# Altium footprint library Passive_Old.PcbLib: 221 footprints (part 10 of 14)
Each footprint in its own frame and in the unit in brackets; x right, y up, seen from the top. Pads: shape width x height; smd on the part's side, far side on the other; paste and mask are expansions set on the pad; w line width, h text height; cw(c..) or ccw(c..) is an arc to the next point about the centre after c.
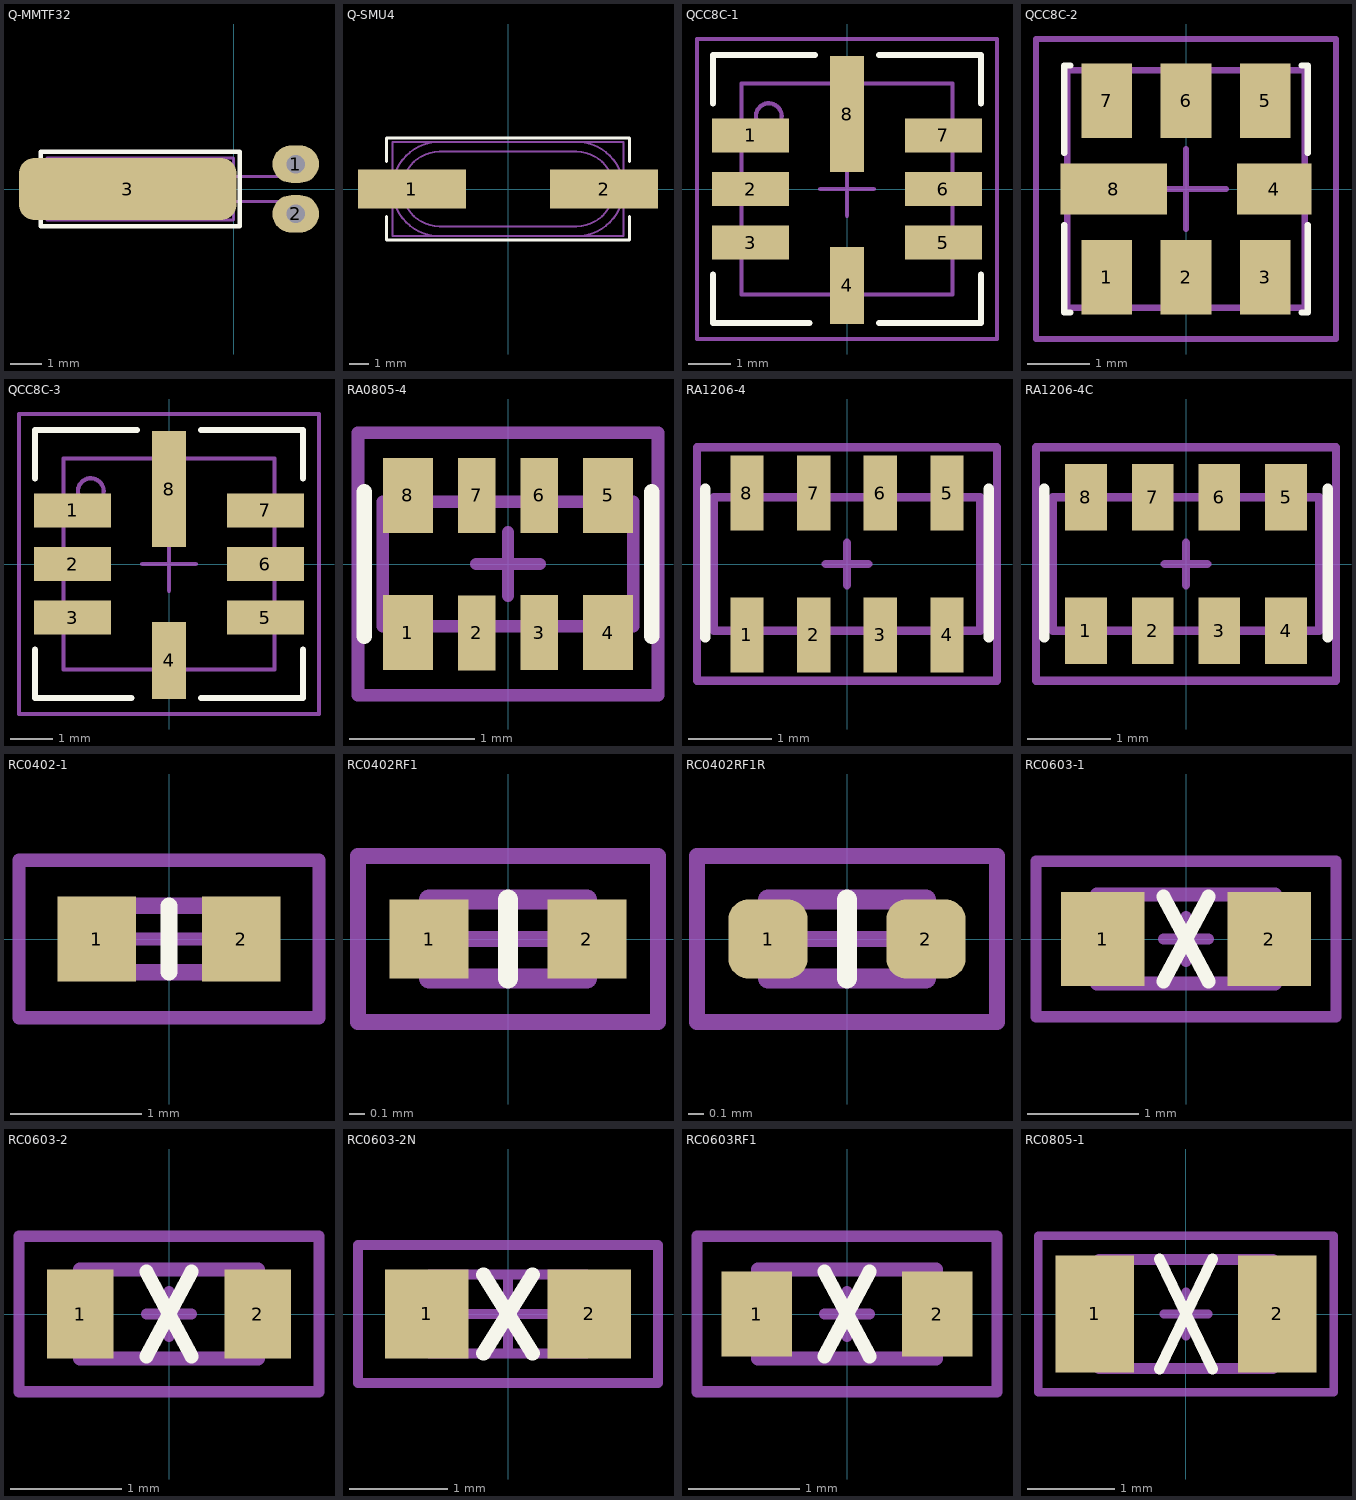
[diagram p9: the footprints below, top view; thin cyan lines are the x and y axes]

## Q-MMTF32 [mm] "Quartz D2x6mm tht"
pads (3):
  oval 1.5x1.2 hole 0.6: 1(2,0.8) 2(2,-0.8)
  rrect50% 7x2 smd paste-200: 3(-3.4,0)
Top Overlay:
  lines w0.15: -6.2,-1.2 -6.2,1.2 0.2,1.2 0.2,-1.2 -6.2,-1.2
Mechanical 13:
  lines w0.102: 0,-0.4 1.6,-0.4 2,-0.8 ; 0,0.4 1.6,0.4 2,0.8 ; -6,-1 -6,1 0,1 0,-1 -6,-1
3D body: height 2.09, standoff 0.1, extent -6,-1 0,0.996
3D body: height 1, standoff -3.2, extent 1.85,0.65 2.15,0.95
3D body: height 1.2, standoff 1, extent 0,0.3 2.15,0.95
3D body: height 1, standoff -3.2, extent 1.85,-0.95 2.15,-0.65
3D body: height 1.2, standoff 1, extent 0,-0.95 2.15,-0.3

## Q-SMU4 [mm] "Quartz crystal 12.5x4.8x4mm"
height 4
pads (2):
  rect 5.5x2 smd: 1(-4.9,0) 2(4.9,0)
Top Overlay:
  lines w0.15: -6.2,-1.4 -6.2,-2.6 6.2,-2.6 6.2,-1.4 ; -6.2,1.4 -6.2,2.6 6.2,2.6 6.2,1.4
Mechanical 13:
  lines w0.1: -3.5,-2.4 cw(c-3.5,0) -3.5,2.4 ; -3.5,-1.9 cw(c-3.5,0) -3.5,1.9 ; 3.5,-2.4 ccw(c3.5,0) 3.5,2.4 ; 3.5,-1.9 ccw(c3.5,0) 3.5,1.9
  lines w0.102: -3.5,-1.9 3.5,-1.9 ; -3.5,1.9 3.5,1.9 ; -5.9,-2.4 5.9,-2.4 5.9,2.4 -5.9,2.4 -5.9,-2.4
3D body: height 1, standoff 0.8, extent -5.912,-2.412 5.912,2.412
3D body: height 4, standoff 0.8, extent -5.4,-1.9 5.4,1.9
3D body: height 0.8, standoff 0, extent -5.9,-2.4 5.9,2.4

## QCC8C-1 [mil] "SAW filter 8 pin R1.27mm"
height 66.93
pads (8):
  rect 72x32 smd: 1(-90,50) 2(-90,0) 3(-90,-50) 5(90,-50) 6(90,0) 7(90,50)
  rect 32x72 smd: 4(0,-90)
  rect 32x108 smd: 8(0,70)
Top Overlay:
  lines w5.91: -125,-80 -125,-125 -35,-125 ; -125,80 -125,125 -30,125 ; 30,-125 125,-125 125,-80 ; 30,125 125,125 125,80
Mechanical 13:
  circle w4: c-73,68 r12
  lines w4: -98.43,-57.87 -98.43,-98.43 -7.87,-98.43 ; -98.43,-42.13 -98.43,-7.87 ; -98.43,7.87 -98.43,43.13 ; -98.43,58.87 -98.43,98.43 -7.87,98.43 ; -98.18,-57.87 ccw(c-98.18,-50) -98.18,-42.13 ; -98.18,-7.87 ccw(c-98.18,0) -98.18,7.87 ; -98.18,43.13 ccw(c-98.18,51) -98.18,58.87 ; -7.87,-98.18 cw(c0,-98.18) 7.87,-98.18 ; -7.87,98.18 ccw(c0,98.18) 7.87,98.18 ; 7.87,-98.43 98.43,-98.43 98.43,-57.87 ; 7.87,98.43 98.43,98.43 98.43,58.87 ; 98.18,-57.87 cw(c98.18,-50) 98.18,-42.13 ; 98.18,-7.87 cw(c98.18,0) 98.18,7.87 ; 98.18,43.13 cw(c98.18,51) 98.18,58.87 ; 98.43,-42.13 98.43,-7.87 ; 98.43,7.87 98.43,43.13
Mechanical 15:
  lines w4: -25,0 25,0 ; 0,-25 0,25 ; -140,-140 140,-140 140,140 -140,140 -140,-105 -140,-140
3D body: height 66.93, standoff 53.15, extent -90.55,-90.55 90.55,90.55
3D body: height 53.15, standoff 0, extent -8.03,-98.43 8.03,-90.24
3D body: height 53.15, standoff 0, extent -98.34,-58.03 -90.15,-41.98
3D body: height 53.15, standoff 0, extent -98.43,-8.03 -90.24,8.03
3D body: height 53.15, standoff 0, extent -98.43,42.97 -90.24,59.03
3D body: height 53.15, standoff 0, extent -8.03,90 8.02,98.18
3D body: height 53.15, standoff 0, extent 90.24,42.97 98.43,59.03
3D body: height 53.15, standoff 0, extent 90.24,-8.03 98.43,8.03
3D body: height 53.15, standoff 0, extent 90.24,-57.87 98.43,-41.82
3D body: height 53.15, standoff 0, extent -98.43,-98.43 98.45,98.43
3D body: height 67.32, standoff 66.93, extent -85.24,55.76 -60.76,80.24

## QCC8C-2 [mm] "SAW filter 8 pin R1.27mm"
height 1.1
pads (8):
  rect 0.81x1.19 smd: 1(-1.27,-1.41) 2(0,-1.41) 3(1.27,-1.41) 5(1.27,1.41) 6(0,1.41) 7(-1.27,1.41)
  rect 1.19x0.81 smd: 4(1.41,0)
  rect 1.7x0.81 smd: 8(-1.155,0)
Top Overlay:
  lines w0.102: -1.95,-0.575 -1.95,-1.975 ; -1.95,0.575 -1.95,1.975 ; -1.85,-1.975 -1.95,-1.975 ; -1.85,1.975 -1.95,1.975 ; 1.85,-1.975 1.95,-1.975 ; 1.85,1.975 1.95,1.975 ; 1.95,-0.575 1.95,-1.975 ; 1.95,0.575 1.95,1.975 ; -1.95,-1.975 -1.95,-1.975 ; -1.95,1.975 -1.95,1.975 ; 1.95,-1.975 1.95,-1.975 ; 1.95,1.975 1.95,1.975
Mechanical 13:
  lines w0.1: -1.9,-0.2 ccw(c-1.9,0) -1.9,0.2 ; -1.475,-1.9 cw(c-1.275,-1.9) -1.075,-1.9 ; -1.475,1.9 ccw(c-1.275,1.9) -1.075,1.9 ; -0.2,-1.9 cw(c0,-1.9) 0.2,-1.9 ; -0.2,1.9 ccw(c0,1.9) 0.2,1.9 ; 1.075,-1.9 cw(c1.275,-1.9) 1.475,-1.9 ; 1.075,1.9 ccw(c1.275,1.9) 1.475,1.9 ; 1.9,-0.2 cw(c1.9,0) 1.9,0.2
  lines w0.102: -1.9,-0.204 -1.9,-1.9 -1.475,-1.9 ; -1.9,0.2 -1.9,1.9 -1.479,1.9 ; -1.075,1.9 -0.204,1.9 ; -1.071,-1.9 -0.2,-1.9 ; -1.05,-1.3 cw(c-1.3,-1.3) -1.05,-1.297 ; 0.2,1.9 1.071,1.9 ; 0.204,-1.9 1.075,-1.9 ; 1.475,1.9 1.9,1.9 1.9,0.204 ; 1.479,-1.9 1.9,-1.9 1.9,-0.2
Mechanical 15:
  lines w0.102: -0.635,0 0.635,0 ; 0,-0.635 0,0.635 ; -2.4,-2.4 -2.4,2.4 2.4,2.4 2.4,-2.4 -2.4,-2.4
3D body: height 1, standoff 0, extent -1.905,-0.209 -1.696,0.203
3D body: height 1, standoff 0, extent -1.479,1.696 -1.067,1.905
3D body: height 1, standoff 0, extent -0.203,1.676 0.209,1.885
3D body: height 1, standoff 0, extent 1.067,1.676 1.479,1.885
3D body: height 1, standoff 0, extent 1.696,-0.204 1.905,0.208
3D body: height 1, standoff 0, extent 1.071,-1.905 1.483,-1.696
3D body: height 1, standoff 0, extent -0.204,-1.905 0.208,-1.696
3D body: height 1.11, standoff 1.1, extent -1.554,-1.554 -1.045,-1.036
3D body: height 1, standoff 0, extent -1.479,-1.905 -1.067,-1.696
3D body: height 1, standoff 0, extent -1.9,-1.9 1.9,1.9
3D body: height 1.1, standoff 1, extent -1.7,-1.7 1.7,1.7

## QCC8C-3 [mil] "SAW filter 8 pin R1.27mm"
height 66.93
pads (8):
  rect 72x32 smd: 1(-90,50) 2(-90,0) 3(-90,-50) 5(90,-50) 6(90,0) 7(90,50)
  rect 32x72 smd: 4(0,-90)
  rect 32x108 smd: 8(0,70)
Top Overlay:
  lines w5.91: -125,-80 -125,-125 -35,-125 ; -125,80 -125,125 -30,125 ; 30,-125 125,-125 125,-80 ; 30,125 125,125 125,80
Mechanical 13:
  circle w4: c-73,68 r12
  lines w4: -98.43,-57.87 -98.43,-98.43 -7.87,-98.43 ; -98.43,-42.13 -98.43,-7.87 ; -98.43,7.87 -98.43,43.13 ; -98.43,58.87 -98.43,98.43 -7.87,98.43 ; -98.18,-57.87 ccw(c-98.18,-50) -98.18,-42.13 ; -98.18,-7.87 ccw(c-98.18,0) -98.18,7.87 ; -98.18,43.13 ccw(c-98.18,51) -98.18,58.87 ; -7.87,-98.18 cw(c0,-98.18) 7.87,-98.18 ; -7.87,98.18 ccw(c0,98.18) 7.87,98.18 ; 7.87,-98.43 98.43,-98.43 98.43,-57.87 ; 7.87,98.43 98.43,98.43 98.43,58.87 ; 98.18,-57.87 cw(c98.18,-50) 98.18,-42.13 ; 98.18,-7.87 cw(c98.18,0) 98.18,7.87 ; 98.18,43.13 cw(c98.18,51) 98.18,58.87 ; 98.43,-42.13 98.43,-7.87 ; 98.43,7.87 98.43,43.13
Mechanical 15:
  lines w4: -25,0 25,0 ; 0,-25 0,25 ; -140,-140 140,-140 140,140 -140,140 -140,-105 -140,-140
3D body: height 66.93, standoff 53.15, extent -90.55,-90.55 90.55,90.55
3D body: height 53.15, standoff 0, extent -8.03,-98.43 8.03,-90.24
3D body: height 53.15, standoff 0, extent -98.34,-58.03 -90.15,-41.98
3D body: height 53.15, standoff 0, extent -98.43,-8.03 -90.24,8.03
3D body: height 53.15, standoff 0, extent -98.43,42.97 -90.24,59.03
3D body: height 53.15, standoff 0, extent -8.03,90 8.02,98.18
3D body: height 53.15, standoff 0, extent 90.24,42.97 98.43,59.03
3D body: height 53.15, standoff 0, extent 90.24,-8.03 98.43,8.03
3D body: height 53.15, standoff 0, extent 90.24,-57.87 98.43,-41.82
3D body: height 53.15, standoff 0, extent -98.43,-98.43 98.45,98.43
3D body: height 53.54, standoff 53.15, extent -85.24,55.76 -60.76,80.24

## RA0805-4 [mm] "Resistor array 4x Single R; 0805 8 pin R0.5mm"
height 0.5
pads (8):
  rect 0.4x0.6 smd: 1(-0.8,-0.55) 4(0.8,-0.55) 5(0.8,0.55) 8(-0.8,0.55)
  rect 0.3x0.6 smd: 2(-0.25,-0.55) 3(0.25,-0.55) 6(0.25,0.55) 7(-0.25,0.55)
Top Overlay:
  lines w0.127: -1.15,-0.575 -1.15,0.575 ; 1.15,-0.575 1.15,0.575
Mechanical 13:
  lines w0.1: -1,-0.5 1,-0.5 1,0.5 -1,0.5 -1,-0.5
Mechanical 15:
  lines w0.1: -0.254,0 0.254,0 ; 0,-0.254 0,0.254
  lines w0.102: -1.2,-1.05 -1.2,1.05 1.2,1.05 1.2,-1.05 -1.2,-1.05
3D body: height 0.46, standoff 0, extent 0.125,0.35 0.375,0.525
3D body: height 0.46, standoff 0, extent -0.375,0.35 -0.125,0.525
3D body: height 0.46, standoff 0, extent 0.125,-0.525 0.375,-0.35
3D body: height 0.46, standoff 0, extent -0.375,-0.525 -0.125,-0.35
3D body: height 0.46, standoff 0, extent 0.625,-0.525 0.975,-0.35
3D body: height 0.46, standoff 0, extent 0.625,0.35 0.975,0.525
3D body: height 0.46, standoff 0, extent -0.975,0.35 -0.625,0.525
3D body: height 0.46, standoff 0, extent -0.975,-0.525 -0.625,-0.35
3D body: height 0.46, standoff 0.45, extent -1,-0.35 1,0.35
3D body: height 0.45, standoff 0, extent -1,-0.5 1,0.5

## RA1206-4 [mm] "CRA06P Resistor array 4x Single R; 1206 8 pin R0.8mm"
height 0.5
pads (8):
  rect 0.4x0.9 smd: 1(-1.2,-0.85) 2(-0.4,-0.85) 3(0.4,-0.85) 4(1.2,-0.85) 5(1.2,0.85) 6(0.4,0.85) 7(-0.4,0.85) 8(-1.2,0.85)
Top Overlay:
  lines w0.127: -1.7,-0.878 -1.7,0.9 ; 1.7,-0.878 1.7,0.9
Mechanical 13:
  lines w0.1: -1.6,-0.8 1.6,-0.8 1.6,0.8 -1.6,0.8 -1.6,-0.8
Mechanical 15:
  lines w0.1: -0.254,0 0.254,0 ; 0,-0.254 0,0.254
  lines w0.102: -1.8,-1.4 1.8,-1.4 1.8,1.4 -1.8,1.4 -1.8,-1.4
3D body: height 0.5, standoff 0, extent -1.6,-0.6 1.6,0.6
3D body: height 0.5, standoff 0, extent -1.4,-0.8 -1,-0.6
3D body: height 0.5, standoff 0, extent -0.6,-0.8 -0.2,-0.6
3D body: height 0.5, standoff 0, extent 0.2,-0.8 0.6,-0.6
3D body: height 0.5, standoff 0, extent 1,-0.8 1.4,-0.6
3D body: height 0.5, standoff 0, extent 1,0.6 1.4,0.8
3D body: height 0.5, standoff 0, extent 0.2,0.6 0.6,0.8
3D body: height 0.5, standoff 0, extent -0.6,0.6 -0.2,0.8
3D body: height 0.5, standoff 0, extent -1.4,0.6 -1,0.8
3D body: height 0.55, standoff 0.5, extent -1.6,-0.5 1.6,0.5

## RA1206-4C [mm] "TC164 Resistor array 4x Single R; 1206 8 pin R0.8mm"
height 0.5
pads (8):
  rect 0.5x0.8 smd mask+0.051: 1(-1.2,-0.8) 2(-0.4,-0.8) 3(0.4,-0.8) 4(1.2,-0.8) 5(1.2,0.8) 6(0.4,0.8) 7(-0.4,0.8) 8(-1.2,0.8)
Top Overlay:
  lines w0.127: -1.7,-0.878 -1.7,0.9 ; 1.7,-0.878 1.7,0.9
Mechanical 13:
  lines w0.1: -1.6,-0.8 -1.375,-0.8 cw(c-1.2,-0.8) -1.025,-0.8 -0.575,-0.8 cw(c-0.4,-0.8) -0.225,-0.8 0.225,-0.8 cw(c0.4,-0.8) 0.575,-0.8 1.025,-0.8 cw(c1.2,-0.8) 1.375,-0.8 1.6,-0.8 1.6,0.8 1.375,0.8 cw(c1.2,0.8) 1.025,0.8 0.575,0.8 cw(c0.4,0.8) 0.225,0.8 -0.225,0.8 cw(c-0.4,0.8) -0.575,0.8 -1.025,0.8 cw(c-1.2,0.8) -1.375,0.8 -1.6,0.8 -1.6,-0.8
Mechanical 15:
  lines w0.1: -0.254,0 0.254,0 ; 0,-0.254 0,0.254
  lines w0.102: -1.8,-1.4 -1.8,1.4 1.8,1.4 1.8,-1.4 -1.8,-1.4
3D body: height 0.55, standoff 0, extent -1.5,-0.8 -0.9,-0.5
3D body: height 0.55, standoff 0, extent -0.7,-0.8 -0.1,-0.5
3D body: height 0.55, standoff 0, extent 0.1,-0.8 0.7,-0.5
3D body: height 0.55, standoff 0, extent 0.9,-0.8 1.5,-0.5
3D body: height 0.55, standoff 0, extent 0.9,0.5 1.5,0.8
3D body: height 0.55, standoff 0, extent 0.1,0.5 0.7,0.8
3D body: height 0.55, standoff 0, extent -0.7,0.5 -0.1,0.8
3D body: height 0.55, standoff 0, extent -1.5,0.5 -0.9,0.8
3D body: height 0.55, standoff 0, extent -1.6,-0.8 1.6,0.8
3D body: height 0.6, standoff 0.55, extent -1.6,-0.5 1.6,0.5

## RC0402-1 [mm] "Chip resistor 0402"
height 0.4
pads (2):
  rect 0.6x0.65 smd: 1(-0.55,0) 2(0.55,0)
Top Overlay:
  lines w0.127: 0,-0.254 0,0.254
Mechanical 13:
  lines w0.127: -0.508,-0.254 -0.508,0.254 0.508,0.254 0.508,-0.254 -0.508,-0.254
Mechanical 15:
  lines w0.1: -0.25,0 0.25,0 ; 0,-0.25 0,0.25
  lines w0.102: -1.143,-0.6 1.143,-0.6 1.143,0.6 -1.143,0.6 -1.143,-0.6
3D body: height 0.36, standoff 0.35, extent -0.35,-0.254 0.35,0.254
3D body: height 0.35, standoff 0, extent -0.508,-0.254 0.508,0.254

## RC0402RF1 [mil] "Chip resistor 0402 RF pad"
height 15.75
pads (2):
  rect 20x20 smd: 1(-20,0) 2(20,0)
Top Overlay:
  lines w5: 0,-10 0,10
Mechanical 13:
  lines w5: -20,-10 20,-10 20,10 -20,10 -20,-10
Mechanical 15:
  lines w3.94: -9.84,0 9.84,0 ; 0,-9.84 0,9.84
  lines w4: -38,-21 -38,21 38,21 38,-21 -38,-21
3D body: height 13.78, standoff 0, extent -20,-10 20,10
3D body: height 13.98, standoff 13.78, extent -13.78,-10 13.78,10

## RC0402RF1R [mil] "Chip resistor 0402 RF round pad"
height 15.75
pads (2):
  rrect50% 20x20 smd: 1(-20,0) 2(20,0)
Top Overlay:
  lines w5: 0,-10 0,10
Mechanical 13:
  lines w5: -20,-10 20,-10 20,10 -20,10 -20,-10
Mechanical 15:
  lines w3.94: -9.84,0 9.84,0 ; 0,-9.84 0,9.84
  lines w4: -38,-21 -38,21 38,21 38,-21 -38,-21
3D body: height 13.78, standoff 0, extent -20,-10 20,10
3D body: height 13.98, standoff 13.78, extent -13.78,-10 13.78,10

## RC0603-1 [mm] "Chip resistor 0603"
height 0.45
pads (2):
  rect 0.75x0.85 smd: 1(-0.75,0) 2(0.75,0)
Top Overlay:
  lines w0.127: -0.203,-0.381 0.203,0.381 ; -0.203,0.381 0.203,-0.381
Mechanical 13:
  lines w0.127: -0.8,-0.4 0.8,-0.4 0.8,0.4 -0.8,0.4 -0.8,-0.4
Mechanical 15:
  lines w0.1: -0.2,0 0.2,0 ; 0,-0.2 0,0.2 ; -1.35,-0.7 1.35,-0.7 1.35,0.7 -1.35,0.7 -1.35,-0.7
3D body: height 0.46, standoff 0.45, extent -0.6,-0.4 0.6,0.4
3D body: height 0.45, standoff 0, extent -0.8,-0.4 0.8,0.4

## RC0603-2 [mm] "Chip resistor 0603 low C"
height 0.45
pads (2):
  rect 0.6x0.8 smd: 1(-0.8,0) 2(0.8,0)
Top Overlay:
  lines w0.127: -0.203,-0.381 0.203,0.381 ; -0.203,0.381 0.203,-0.381
Mechanical 13:
  lines w0.127: -0.8,-0.4 0.8,-0.4 0.8,0.4 -0.8,0.4 -0.8,-0.4
Mechanical 15:
  lines w0.1: -0.2,0 0.2,0 ; 0,-0.2 0,0.2 ; -1.35,-0.7 1.35,-0.7 1.35,0.7 -1.35,0.7 -1.35,-0.7
3D body: height 0.46, standoff 0.45, extent -0.6,-0.4 0.6,0.4
3D body: height 0.45, standoff 0, extent -0.8,-0.4 0.8,0.4

## RC0603-2N [mm] "Chip Resistor, 2-Leads, Body 1,6x0,8mm, IPC Medium Density"
height 0.5
pads (2):
  rect 0.85x0.9 smd: 1(-0.825,0) 2(0.825,0)
Top Overlay:
  lines w0.15: -0.25,-0.4 0.25,0.4 ; -0.25,0.4 0.25,-0.4
Mechanical 13:
  lines w0.1: -0.8,-0.4 -0.8,0.4 0.8,0.4 0.8,-0.4 -0.8,-0.4
Mechanical 15:
  lines w0.1: -0.4,0 0.4,0 ; 0,-0.4 0,0.4 ; -1.525,-0.7 -1.525,0.7 1.525,0.7 1.525,-0.7 -1.525,-0.7
3D body: height 0.5, standoff 0, extent -0.8,-0.4 0.8,0.4

## RC0603RF1 [mil] "Chip resistor 0603 RF pad"
height 17.72
pads (2):
  rect 25x30 smd: 1(-32,0) 2(32,0)
Top Overlay:
  lines w5: -8,-15 8,15 ; -8,15 8,-15
Mechanical 13:
  lines w5: -31.5,-15.75 31.5,-15.75 31.5,15.75 -31.5,15.75 -31.5,-15.75
Mechanical 15:
  lines w3.94: -7.87,0 7.87,0 ; 0,-7.87 0,7.87 ; -53.15,-27.56 53.15,-27.56 53.15,27.56 -53.15,27.56 -53.15,-27.56
3D body: height 17.91, standoff 17.72, extent -23.62,-15.75 23.62,15.75
3D body: height 17.72, standoff 0, extent -31.5,-15.75 31.5,15.75

## RC0805-1 [mm] "Chip resistor 0805"
height 0.5
pads (2):
  rect 0.9x1.35 smd: 1(-1.05,0) 2(1.05,0)
Top Overlay:
  lines w0.127: -0.305,-0.635 0.305,0.635 ; -0.305,0.635 0.305,-0.635
Mechanical 13:
  lines w0.127: -1,-0.625 1,-0.625 1,0.625 -1,0.625 -1,-0.625
Mechanical 15:
  lines w0.1: -0.254,0 0.254,0 ; 0,-0.254 0,0.254 ; -1.7,-0.9 1.7,-0.9 1.7,0.9 -1.7,0.9 -1.7,-0.9
3D body: height 0.51, standoff 0.5, extent -0.6,-0.625 0.6,0.625
3D body: height 0.5, standoff 0, extent -1.016,-0.625 1.016,0.625